# Altium footprint library molex_connectors.PcbLib: 22 footprints (part 1 of 2)
Each footprint in its own frame and in the unit in brackets; x right, y up, seen from the top. Pads: shape width x height; smd on the part's side, far side on the other; paste and mask are expansions set on the pad; w line width, h text height; cw(c..) or ccw(c..) is an arc to the next point about the centre after c.
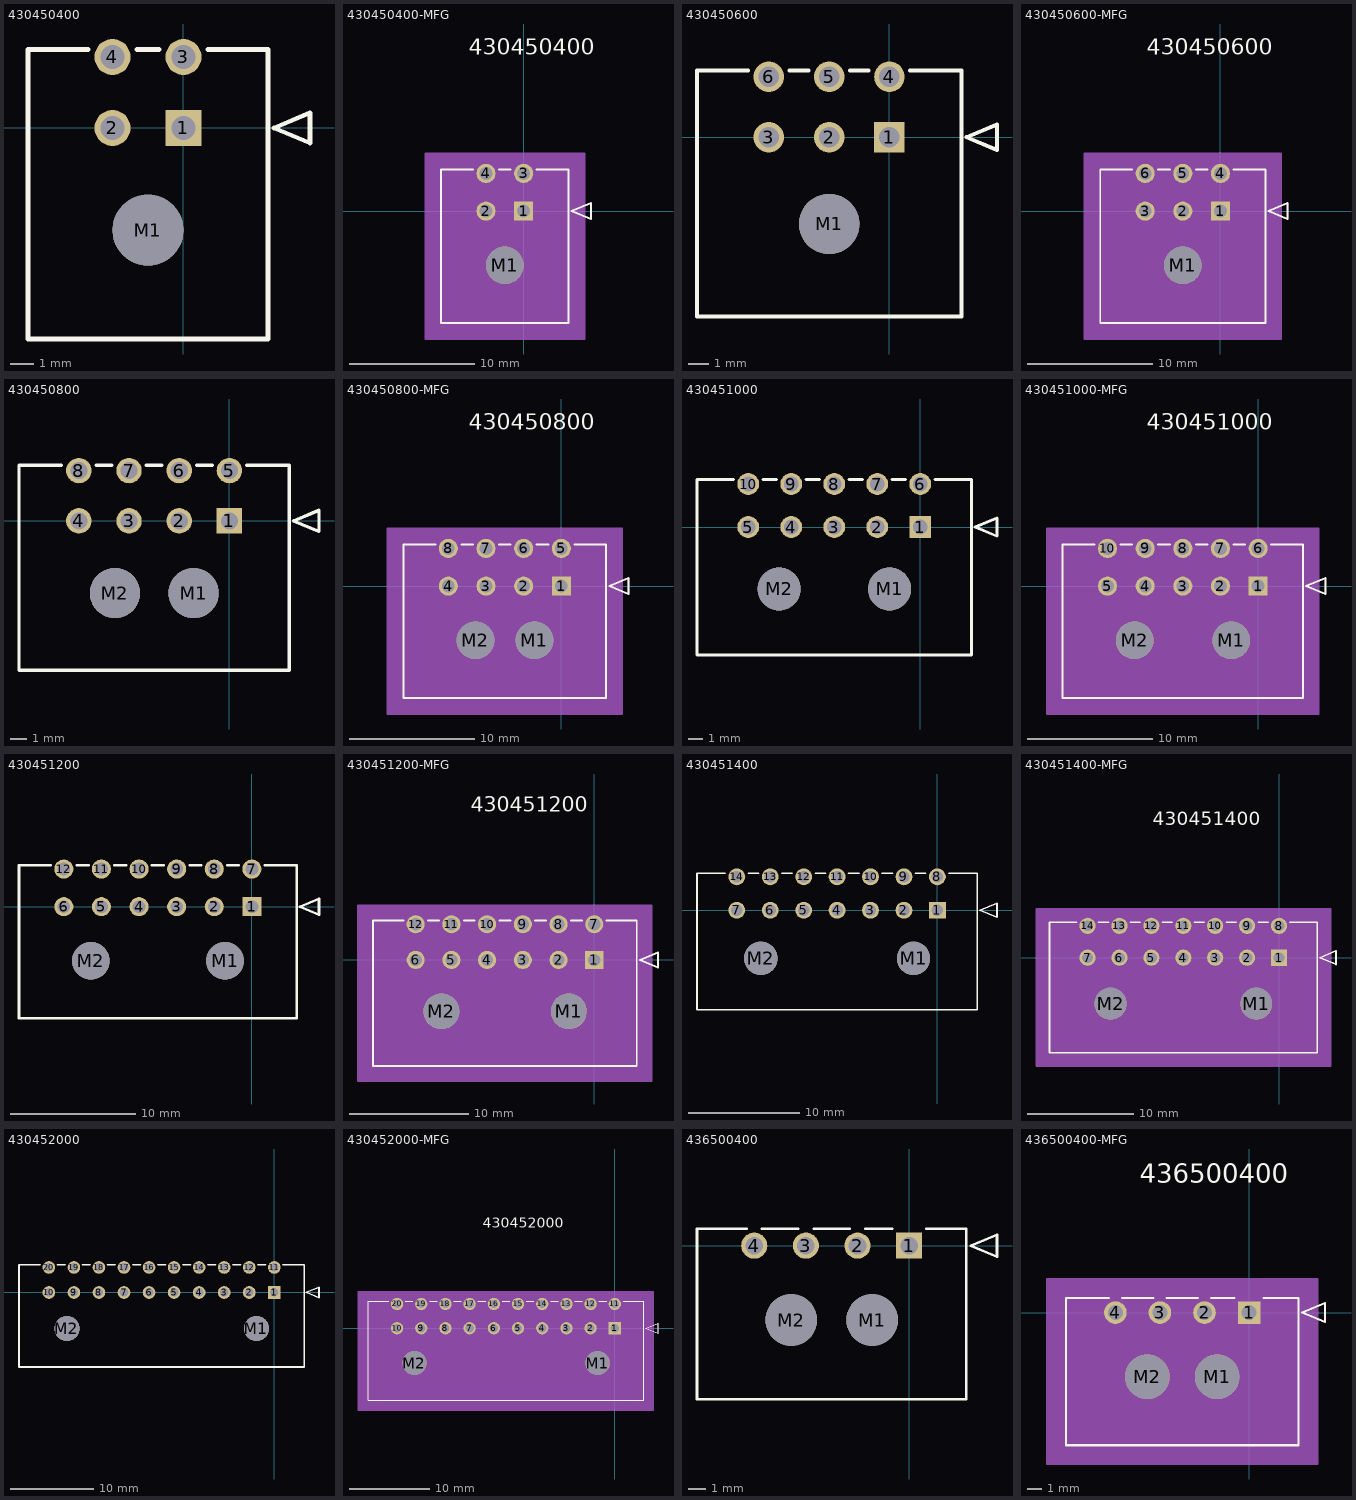
[diagram p0: the footprints below, top view; thin cyan lines are the x and y axes]

## 430450400 [mm]
pads (5):
  rect 1.52x1.52 / inner round 1.524 / far side rect 1.52x1.52 hole 1.02: 1(0,0)
  round 1.52 / inner round 1.524 / far side round 1.52 hole 1.02: 2(-3,0) 3(0,3) 4(-3,3)
  round 3 / inner round 1.524 / far side round 3 hole 3 unplated: M1(-1.5,-4.32)
Top Overlay:
  lines w0.2: -4.032,3.32 -6.575,3.32 -6.575,-8.92 3.575,-8.92 3.575,3.32 1.032,3.32 ; -1.968,3.32 -1.032,3.32 ; 3.829,0 5.353,0.635 5.353,-0.635 3.829,0
3D body "430450400.step": height 8.83, standoff -3.12, extent -6.575,-8.93 3.575,3.31

## 430450400-MFG [mm]
pads (5):
  rect 1.52x1.52 / inner round 1.524 / far side rect 1.52x1.52 hole 1.02 paste-0.76 mask+0.076: 1(0,0)
  round 1.52 / inner round 1.524 / far side round 1.52 hole 1.02 paste-0.76 mask+0.076: 2(-3,0) 3(0,3) 4(-3,3)
  round 3 / inner round 1.524 / far side round 3 hole 3 unplated paste-1.5 mask+0.076: M1(-1.5,-4.32)
Top Overlay:
  lines w0.152: -4.032,3.32 -6.575,3.32 -6.575,-8.92 3.575,-8.92 3.575,3.32 1.032,3.32 ; -1.968,3.32 -1.032,3.32 ; 3.829,0 5.353,0.635 5.353,-0.635 3.829,0
  text "430450400" at -4.357,12.44 h1.27
Mechanical 3:
  text "PTH_DRILL_SIZE:_1.02_MM,_TOLERANCE:_+0.05/-0.05" at -16.422,-15.5 h1.27
  text "NPTH_DRILL_SIZE:_3.0_MM,_TOLERANCE:_+0.05/-0.05" at -16.422,-18.04 h1.27
Mechanical 10:
  text "PTH_DRILL_SIZE:_1.02_MM,_TOLERANCE:_+0.05/-0.05" at -16.422,-15.5 h1.27
  text "NPTH_DRILL_SIZE:_3.0_MM,_TOLERANCE:_+0.05/-0.05" at -16.422,-18.04 h1.27
Mechanical 13:
  lines w0.127: -6.575,-8.92 3.575,-8.92 3.575,3.32 -6.575,3.32 -6.575,-8.92 ; 3.829,0 5.353,0.635 5.353,-0.635 3.829,0
  text "430450400" at -4.357,12.44 h1.27
Mechanical 15:
  region: 4.845,4.59 -7.845,4.59 -7.845,-10.19 4.845,-10.19
  lines w0.127: -7.845,-10.19 -7.845,4.59 4.845,4.59 4.845,-10.19 -7.845,-10.19

## 430450600 [mm]
pads (7):
  rect 1.52x1.52 / inner round 1.524 / far side rect 1.52x1.52 hole 1.02: 1(0,0)
  round 1.52 / inner round 1.524 / far side round 1.52 hole 1.02: 2(-3,0) 3(-6,0) 4(0,3) 5(-3,3) 6(-6,3)
  round 3 / inner round 1.524 / far side round 3 hole 3 unplated: M1(-3,-4.32)
Top Overlay:
  lines w0.2: -7.032,3.32 -9.575,3.32 -9.575,-8.92 3.575,-8.92 3.575,3.32 1.032,3.32 ; -4.968,3.32 -4.032,3.32 ; -1.968,3.32 -1.032,3.32 ; 3.829,0 5.353,-0.635 5.353,0.635 3.829,0
3D body "430450600.step": height 8.83, standoff -3.12, extent -9.55,-8.93 3.6,3.31

## 430450600-MFG [mm]
pads (7):
  rect 1.52x1.52 / inner round 1.524 / far side rect 1.52x1.52 hole 1.02 paste-0.76 mask+0.076: 1(0,0)
  round 1.52 / inner round 1.524 / far side round 1.52 hole 1.02 paste-0.76 mask+0.076: 2(-3,0) 3(-6,0) 4(0,3) 5(-3,3) 6(-6,3)
  round 3 / inner round 1.524 / far side round 3 hole 3 unplated paste-1.5 mask+0.076: M1(-3,-4.32)
Top Overlay:
  lines w0.152: -7.032,3.32 -9.575,3.32 -9.575,-8.92 3.575,-8.92 3.575,3.32 1.032,3.32 ; -4.968,3.32 -4.032,3.32 ; -1.968,3.32 -1.032,3.32 ; 3.829,0 5.353,-0.635 5.353,0.635 3.829,0
  text "430450600" at -5.858,12.44 h1.27
Mechanical 3:
  text "NPTH_DRILL_SIZE:_3.0_MM,_TOLERANCE:_+0.05/-0.05" at -17.923,-18.04 h1.27
  text "PTH_DRILL_SIZE:_1.02_MM,_TOLERANCE:_+0.05/-0.05" at -17.923,-15.5 h1.27
Mechanical 10:
  text "NPTH_DRILL_SIZE:_3.0_MM,_TOLERANCE:_+0.05/-0.05" at -17.923,-18.04 h1.27
  text "PTH_DRILL_SIZE:_1.02_MM,_TOLERANCE:_+0.05/-0.05" at -17.923,-15.5 h1.27
Mechanical 13:
  lines w0.127: -9.575,-8.92 -9.575,3.32 3.575,3.32 3.575,-8.92 -9.575,-8.92 ; 3.829,0 5.353,-0.635 5.353,0.635 3.829,0
  text "430450600" at -5.858,12.44 h1.27
Mechanical 15:
  region: 4.845,4.59 -10.845,4.59 -10.845,-10.19 4.845,-10.19
  lines w0.127: -10.845,-10.19 4.845,-10.19 4.845,4.59 -10.845,4.59 -10.845,-10.19

## 430450800 [mm]
pads (10):
  rect 1.52x1.52 / inner round 1.524 / far side rect 1.52x1.52 hole 1.02: 1(0,0)
  round 1.52 / inner round 1.524 / far side round 1.52 hole 1.02: 2(-3,0) 3(-6,0) 4(-9,0) 5(0,3) 6(-3,3) 7(-6,3) 8(-9,3)
  round 3 / inner round 1.524 / far side round 3 hole 3 unplated: M1(-2.14,-4.32) M2(-6.84,-4.32)
Top Overlay:
  lines w0.2: -10.032,3.32 -12.575,3.32 -12.575,-8.92 3.575,-8.92 3.575,3.32 1.032,3.32 ; -7.968,3.32 -7.032,3.32 ; -4.968,3.32 -4.032,3.32 ; -1.968,3.32 -1.032,3.32 ; 3.829,0 5.353,0.635 5.353,-0.635 3.829,0
3D body "430450800.step": height 9.83, standoff -2.12, extent -12.575,-8.92 3.575,3.32

## 430450800-MFG [mm]
pads (10):
  rect 1.52x1.52 / inner round 1.524 / far side rect 1.52x1.52 hole 1.02 paste-0.76 mask+0.076: 1(0,0)
  round 1.52 / inner round 1.524 / far side round 1.52 hole 1.02 paste-0.76 mask+0.076: 2(-3,0) 3(-6,0) 4(-9,0) 5(0,3) 6(-3,3) 7(-6,3) 8(-9,3)
  round 3 / inner round 1.524 / far side round 3 hole 3 unplated paste-1.5 mask+0.076: M1(-2.14,-4.32) M2(-6.84,-4.32)
Top Overlay:
  lines w0.152: -10.032,3.32 -12.575,3.32 -12.575,-8.92 3.575,-8.92 3.575,3.32 1.032,3.32 ; -7.968,3.32 -7.032,3.32 ; -4.968,3.32 -4.032,3.32 ; -1.968,3.32 -1.032,3.32 ; 3.829,0 5.353,0.635 5.353,-0.635 3.829,0
  text "430450800" at -7.357,12.44 h1.27
Mechanical 3:
  text "PTH_DRILL_SIZE:_1.02_MM,_TOLERANCE:_+0.05/-0.05" at -19.422,-15.5 h1.27
  text "NPTH_DRILL_SIZE:_3.0_MM,_TOLERANCE:_+0.05/-0.05" at -19.422,-18.04 h1.27
Mechanical 10:
  text "PTH_DRILL_SIZE:_1.02_MM,_TOLERANCE:_+0.05/-0.05" at -19.422,-15.5 h1.27
  text "NPTH_DRILL_SIZE:_3.0_MM,_TOLERANCE:_+0.05/-0.05" at -19.422,-18.04 h1.27
Mechanical 13:
  lines w0.127: -12.575,-8.92 3.575,-8.92 3.575,3.32 -12.575,3.32 -12.575,-8.92 ; 3.829,0 5.353,0.635 5.353,-0.635 3.829,0
  text "430450800" at -7.357,12.44 h1.27
Mechanical 15:
  region: 4.845,4.59 -13.845,4.59 -13.845,-10.19 4.845,-10.19
  lines w0.127: -13.845,-10.19 -13.845,4.59 4.845,4.59 4.845,-10.19 -13.845,-10.19

## 430451000 [mm]
pads (12):
  rect 1.52x1.52 / inner round 1.524 / far side rect 1.52x1.52 hole 1.02: 1(0,0)
  round 1.52 / inner round 1.524 / far side round 1.52 hole 1.02: 2(-3,0) 3(-6,0) 4(-9,0) 5(-12,0) 6(0,3) 7(-3,3) 8(-6,3) 9(-9,3) 10(-12,3)
  round 3 / inner round 1.524 / far side round 3 hole 3 unplated: M1(-2.14,-4.32) M2(-9.84,-4.32)
Top Overlay:
  lines w0.2: -13.032,3.32 -15.575,3.32 -15.575,-8.92 3.575,-8.92 3.575,3.32 1.032,3.32 ; -10.968,3.32 -10.032,3.32 ; -7.968,3.32 -7.032,3.32 ; -4.968,3.32 -4.032,3.32 ; -1.968,3.32 -1.032,3.32 ; 3.829,0 5.353,0.635 5.353,-0.635 3.829,0
3D body "430451000.step": height 8.83, standoff -3.12, extent -15.55,-8.93 3.6,3.31

## 430451000-MFG [mm]
pads (12):
  rect 1.52x1.52 / inner round 1.524 / far side rect 1.52x1.52 hole 1.02 paste-0.76 mask+0.076: 1(0,0)
  round 1.52 / inner round 1.524 / far side round 1.52 hole 1.02 paste-0.76 mask+0.076: 2(-3,0) 3(-6,0) 4(-9,0) 5(-12,0) 6(0,3) 7(-3,3) 8(-6,3) 9(-9,3) 10(-12,3)
  round 3 / inner round 1.524 / far side round 3 hole 3 unplated paste-1.5 mask+0.076: M1(-2.14,-4.32) M2(-9.84,-4.32)
Top Overlay:
  lines w0.152: -13.032,3.32 -15.575,3.32 -15.575,-8.92 3.575,-8.92 3.575,3.32 1.032,3.32 ; -10.968,3.32 -10.032,3.32 ; -7.968,3.32 -7.032,3.32 ; -4.968,3.32 -4.032,3.32 ; -1.968,3.32 -1.032,3.32 ; 3.829,0 5.353,-0.635 5.353,0.635 3.829,0
  text "430451000" at -8.857,12.44 h1.27
Mechanical 3:
  text "NPTH_DRILL_SIZE:_3.0_MM,_TOLERANCE:_+0.05/-0.05" at -20.922,-18.04 h1.27
  text "PTH_DRILL_SIZE:_1.02_MM,_TOLERANCE:_+0.05/-0.05" at -20.922,-15.5 h1.27
Mechanical 10:
  text "NPTH_DRILL_SIZE:_3.0_MM,_TOLERANCE:_+0.05/-0.05" at -20.922,-18.04 h1.27
  text "PTH_DRILL_SIZE:_1.02_MM,_TOLERANCE:_+0.05/-0.05" at -20.922,-15.5 h1.27
Mechanical 13:
  lines w0.127: -15.575,-8.92 -15.575,3.32 3.575,3.32 3.575,-8.92 -15.575,-8.92 ; 3.829,0 5.353,-0.635 5.353,0.635 3.829,0
  text "430451000" at -8.857,12.44 h1.27
Mechanical 15:
  region: 4.845,4.59 -16.845,4.59 -16.845,-10.19 4.845,-10.19
  lines w0.127: -16.845,-10.19 4.845,-10.19 4.845,4.59 -16.845,4.59 -16.845,-10.19

## 430451200 [mm]
pads (14):
  rect 1.52x1.52 / inner round 1.524 / far side rect 1.52x1.52 hole 1.02: 1(0,0)
  round 1.52 / inner round 1.524 / far side round 1.52 hole 1.02: 2(-3,0) 3(-6,0) 4(-9,0) 5(-12,0) 6(-15,0) 7(0,3) 8(-3,3) 9(-6,3) 10(-9,3) 11(-12,3) 12(-15,3)
  round 3 / inner round 1.524 / far side round 3 hole 3 unplated: M1(-2.14,-4.32) M2(-12.84,-4.32)
Top Overlay:
  lines w0.2: -16.032,3.32 -18.575,3.32 -18.575,-8.92 3.575,-8.92 3.575,3.32 1.032,3.32 ; -13.968,3.32 -13.032,3.32 ; -10.968,3.32 -10.032,3.32 ; -7.968,3.32 -7.032,3.32 ; -4.968,3.32 -4.032,3.32 ; -1.968,3.32 -1.032,3.32 ; 3.829,0 5.353,0.635 5.353,-0.635 3.829,0
3D body "430451200.step": height 8.83, standoff -3.12, extent -18.568,-8.892 3.582,3.348

## 430451200-MFG [mm]
pads (14):
  rect 1.52x1.52 / inner round 1.524 / far side rect 1.52x1.52 hole 1.02 paste-0.76 mask+0.076: 1(0,0)
  round 1.52 / inner round 1.524 / far side round 1.52 hole 1.02 paste-0.76 mask+0.076: 2(-3,0) 3(-6,0) 4(-9,0) 5(-12,0) 6(-15,0) 7(0,3) 8(-3,3) 9(-6,3) 10(-9,3) 11(-12,3) 12(-15,3)
  round 3 / inner round 1.524 / far side round 3 hole 3 unplated paste-1.5 mask+0.076: M1(-2.14,-4.32) M2(-12.84,-4.32)
Top Overlay:
  lines w0.152: -16.032,3.32 -18.575,3.32 -18.575,-8.92 3.575,-8.92 3.575,3.32 1.032,3.32 ; -13.968,3.32 -13.032,3.32 ; -10.968,3.32 -10.032,3.32 ; -7.968,3.32 -7.032,3.32 ; -4.968,3.32 -4.032,3.32 ; -1.968,3.32 -1.032,3.32 ; 3.829,0 5.353,0.635 5.353,-0.635 3.829,0
  text "430451200" at -10.357,12.44 h1.27
Mechanical 3:
  text "PTH_DRILL_SIZE:_1.02_MM,_TOLERANCE:_+0.05/-0.05" at -22.422,-15.5 h1.27
  text "NPTH_DRILL_SIZE:_3.0_MM,_TOLERANCE:_+0.05/-0.05" at -22.422,-18.04 h1.27
Mechanical 10:
  text "PTH_DRILL_SIZE:_1.02_MM,_TOLERANCE:_+0.05/-0.05" at -22.422,-15.5 h1.27
  text "NPTH_DRILL_SIZE:_3.0_MM,_TOLERANCE:_+0.05/-0.05" at -22.422,-18.04 h1.27
Mechanical 13:
  lines w0.127: -18.575,-8.92 3.575,-8.92 3.575,3.32 -18.575,3.32 -18.575,-8.92 ; 3.829,0 5.353,0.635 5.353,-0.635 3.829,0
  text "430451200" at -10.357,12.44 h1.27
Mechanical 15:
  region: 4.845,4.59 -19.845,4.59 -19.845,-10.19 4.845,-10.19
  lines w0.127: -19.845,-10.19 -19.845,4.59 4.845,4.59 4.845,-10.19 -19.845,-10.19

## 430451400 [mm]
pads (16):
  rect 1.52x1.52 / inner round 1.524 / far side rect 1.52x1.52 hole 1.02: 1(0,0)
  round 1.52 / inner round 1.524 / far side round 1.52 hole 1.02: 2(-3,0) 3(-6,0) 4(-9,0) 5(-12,0) 6(-15,0) 7(-18,0) 8(0,3) 9(-3,3) 10(-6,3) 11(-9,3) 12(-12,3) 13(-15,3) 14(-18,3)
  round 3 / inner round 1.524 / far side round 3 hole 3 unplated: M1(-2.14,-4.32) M2(-15.84,-4.32)
Top Overlay:
  lines w0.152: -19.032,3.32 -21.575,3.32 -21.575,-8.92 3.575,-8.92 3.575,3.32 1.032,3.32 ; -16.968,3.32 -16.032,3.32 ; -13.968,3.32 -13.032,3.32 ; -10.968,3.32 -10.032,3.32 ; -7.968,3.32 -7.032,3.32 ; -4.968,3.32 -4.032,3.32 ; -1.968,3.32 -1.032,3.32 ; 3.829,0 5.353,-0.635 5.353,0.635 3.829,0
3D body "430451400.step": height 8.83, standoff -3.12, extent -21.575,-8.93 3.575,3.31

## 430451400-MFG [mm]
pads (16):
  rect 1.52x1.52 / inner round 1.524 / far side rect 1.52x1.52 hole 1.02 paste-0.76 mask+0.076: 1(0,0)
  round 1.52 / inner round 1.524 / far side round 1.52 hole 1.02 paste-0.76 mask+0.076: 2(-3,0) 3(-6,0) 4(-9,0) 5(-12,0) 6(-15,0) 7(-18,0) 8(0,3) 9(-3,3) 10(-6,3) 11(-9,3) 12(-12,3) 13(-15,3) 14(-18,3)
  round 3 / inner round 1.524 / far side round 3 hole 3 unplated paste-1.5 mask+0.076: M1(-2.14,-4.32) M2(-15.84,-4.32)
Top Overlay:
  lines w0.152: -19.032,3.32 -21.575,3.32 -21.575,-8.92 3.575,-8.92 3.575,3.32 1.032,3.32 ; -16.968,3.32 -16.032,3.32 ; -13.968,3.32 -13.032,3.32 ; -10.968,3.32 -10.032,3.32 ; -7.968,3.32 -7.032,3.32 ; -4.968,3.32 -4.032,3.32 ; -1.968,3.32 -1.032,3.32 ; 3.829,0 5.353,-0.635 5.353,0.635 3.829,0
  text "430451400" at -11.857,12.44 h1.27
Mechanical 3:
  text "NPTH_DRILL_SIZE:_3.0_MM,_TOLERANCE:_+0.05/-0.05" at -23.922,-18.04 h1.27
  text "PTH_DRILL_SIZE:_1.02_MM,_TOLERANCE:_+0.05/-0.05" at -23.922,-15.5 h1.27
Mechanical 10:
  text "NPTH_DRILL_SIZE:_3.0_MM,_TOLERANCE:_+0.05/-0.05" at -23.922,-18.04 h1.27
  text "PTH_DRILL_SIZE:_1.02_MM,_TOLERANCE:_+0.05/-0.05" at -23.922,-15.5 h1.27
Mechanical 13:
  lines w0.127: -21.575,-8.92 -21.575,3.32 3.575,3.32 3.575,-8.92 -21.575,-8.92 ; 3.829,0 5.353,-0.635 5.353,0.635 3.829,0
  text "430451400" at -11.857,12.44 h1.27
Mechanical 15:
  region: 4.845,4.59 -22.845,4.59 -22.845,-10.19 4.845,-10.19
  lines w0.127: -22.845,-10.19 4.845,-10.19 4.845,4.59 -22.845,4.59 -22.845,-10.19

## 430452000 [mm]
pads (22):
  rect 1.52x1.52 / inner round 1.524 / far side rect 1.52x1.52 hole 1.02: 1(0,0)
  round 1.52 / inner round 1.524 / far side round 1.52 hole 1.02: 2(-3,0) 3(-6,0) 4(-9,0) 5(-12,0) 6(-15,0) 7(-18,0) 8(-21,0) 9(-24,0) 10(-27,0) 11(0,3) 12(-3,3) 13(-6,3) 14(-9,3) 15(-12,3) 16(-15,3) 17(-18,3) 18(-21,3) 19(-24,3) 20(-27,3)
  round 3 / inner round 1.524 / far side round 3 hole 3 unplated: M1(-2.14,-4.32) M2(-24.84,-4.32)
Top Overlay:
  lines w0.2: -28.032,3.32 -30.575,3.32 -30.575,-8.92 3.575,-8.92 3.575,3.32 1.032,3.32 ; -25.968,3.32 -25.032,3.32 ; -22.968,3.32 -22.032,3.32 ; -19.968,3.32 -19.032,3.32 ; -16.968,3.32 -16.032,3.32 ; -13.968,3.32 -13.032,3.32 ; -10.968,3.32 -10.032,3.32 ; -7.968,3.32 -7.032,3.32 ; -4.968,3.32 -4.032,3.32 ; -1.968,3.32 -1.032,3.32 ; 3.829,0 5.353,-0.635 5.353,0.635 3.829,0
3D body "430452000.step": height 8.83, standoff -3.12, extent -30.55,-8.93 3.6,3.31

## 430452000-MFG [mm]
pads (22):
  rect 1.52x1.52 / inner round 1.524 / far side rect 1.52x1.52 hole 1.02 paste-0.76 mask+0.076: 1(0,0)
  round 1.52 / inner round 1.524 / far side round 1.52 hole 1.02 paste-0.76 mask+0.076: 2(-3,0) 3(-6,0) 4(-9,0) 5(-12,0) 6(-15,0) 7(-18,0) 8(-21,0) 9(-24,0) 10(-27,0) 11(0,3) 12(-3,3) 13(-6,3) 14(-9,3) 15(-12,3) 16(-15,3) 17(-18,3) 18(-21,3) 19(-24,3) 20(-27,3)
  round 3 / inner round 1.524 / far side round 3 hole 3 unplated paste-1.5 mask+0.076: M1(-2.14,-4.32) M2(-24.84,-4.32)
Top Overlay:
  lines w0.152: -28.032,3.32 -30.575,3.32 -30.575,-8.92 3.575,-8.92 3.575,3.32 1.032,3.32 ; -25.968,3.32 -25.032,3.32 ; -22.968,3.32 -22.032,3.32 ; -19.968,3.32 -19.032,3.32 ; -16.968,3.32 -16.032,3.32 ; -13.968,3.32 -13.032,3.32 ; -10.968,3.32 -10.032,3.32 ; -7.968,3.32 -7.032,3.32 ; -4.968,3.32 -4.032,3.32 ; -1.968,3.32 -1.032,3.32 ; 3.829,0 5.353,0.635 5.353,-0.635 3.829,0
  text "430452000" at -16.357,12.44 h1.27
Mechanical 3:
  text "PTH_DRILL_SIZE:_1.02_MM,_TOLERANCE:_+0.05/-0.05" at -28.422,-15.5 h1.27
  text "NPTH_DRILL_SIZE:_3.0_MM,_TOLERANCE:_+0.05/-0.05" at -28.422,-18.04 h1.27
Mechanical 10:
  text "PTH_DRILL_SIZE:_1.02_MM,_TOLERANCE:_+0.05/-0.05" at -28.422,-15.5 h1.27
  text "NPTH_DRILL_SIZE:_3.0_MM,_TOLERANCE:_+0.05/-0.05" at -28.422,-18.04 h1.27
Mechanical 13:
  lines w0.127: -30.575,-8.92 3.575,-8.92 3.575,3.32 -30.575,3.32 -30.575,-8.92 ; 3.829,0 5.353,0.635 5.353,-0.635 3.829,0
  text "430452000" at -16.357,12.44 h1.27
Mechanical 15:
  region: 4.845,4.59 -31.845,4.59 -31.845,-10.19 4.845,-10.19
  lines w0.127: -31.845,-10.19 -31.845,4.59 4.845,4.59 4.845,-10.19 -31.845,-10.19

## 436500400 [mm]
pads (6):
  rect 1.52x1.52 / inner round 1.524 / far side rect 1.52x1.52 hole 1.02: 1(0,0)
  round 1.52 / inner round 1.524 / far side round 1.52 hole 1.02: 2(-3,0) 3(-6,0) 4(-9,0)
  round 3 / inner round 1.524 / far side round 3 hole 3 unplated: M1(-2.15,-4.32) M2(-6.85,-4.32)
Top Overlay:
  lines w0.152: -9.448,0.98 -12.325,0.98 -12.325,-8.92 3.325,-8.92 3.325,0.98 0.989,0.98 ; -8.552,0.98 -6.448,0.98 ; -5.552,0.98 -3.448,0.98 ; -2.552,0.98 -0.989,0.98 ; 3.579,0 5.103,0.635 5.103,-0.635 3.579,0
3D body "436500400 v2.step": height 5.61, standoff -3.26, extent -12.3,-8.925 3.35,0.975

## 436500400-MFG [mm]
pads (6):
  rect 1.52x1.52 / inner round 1.524 / far side rect 1.52x1.52 hole 1.02 paste-0.76 mask+0.076: 1(0,0)
  round 1.52 / inner round 1.524 / far side round 1.52 hole 1.02 paste-0.76 mask+0.076: 2(-3,0) 3(-6,0) 4(-9,0)
  round 3 / inner round 1.524 / far side round 3 hole 3 unplated paste-1.5 mask+0.076: M1(-2.15,-4.32) M2(-6.85,-4.32)
Top Overlay:
  lines w0.152: -9.448,0.98 -12.325,0.98 -12.325,-8.92 3.325,-8.92 3.325,0.98 0.989,0.98 ; -8.552,0.98 -6.448,0.98 ; -5.552,0.98 -3.448,0.98 ; -2.552,0.98 -0.989,0.98 ; 3.579,0 5.103,-0.635 5.103,0.635 3.579,0
  text "436500400" at -7.357,8.73 h1.27
Mechanical 3:
  text "NPTH_DRILL_SIZE:_3.0_MM,_TOL:_+0.05/-0.05" at -17.517,-16.67 h1.27
  text "PTH_DRILL_SIZE:_1.02_MM,_TOL:_+0.05/-0.05" at -17.517,-14.13 h1.27
Mechanical 10:
  text "NPTH_DRILL_SIZE:_3.0_MM,_TOL:_+0.05/-0.05" at -17.517,-16.67 h1.27
  text "PTH_DRILL_SIZE:_1.02_MM,_TOL:_+0.05/-0.05" at -17.517,-14.13 h1.27
Mechanical 13:
  lines w0.127: -12.325,-8.92 -12.325,0.98 3.325,0.98 3.325,-8.92 -12.325,-8.92 ; 3.579,0 5.103,-0.635 5.103,0.635 3.579,0
  text "436500400" at -7.357,8.73 h1.27
Mechanical 15:
  region: 4.595,2.25 -13.595,2.25 -13.595,-10.19 4.595,-10.19
  lines w0.127: -13.595,-10.19 4.595,-10.19 4.595,2.25 -13.595,2.25 -13.595,-10.19